# Altium footprint library DC_DC_CONVERTER.PCBLIB: 1 footprints
Each footprint in its own frame and in the unit in brackets; x right, y up, seen from the top. Pads: shape width x height; smd on the part's side, far side on the other; paste and mask are expansions set on the pad; w line width, h text height; cw(c..) or ccw(c..) is an arc to the next point about the centre after c.
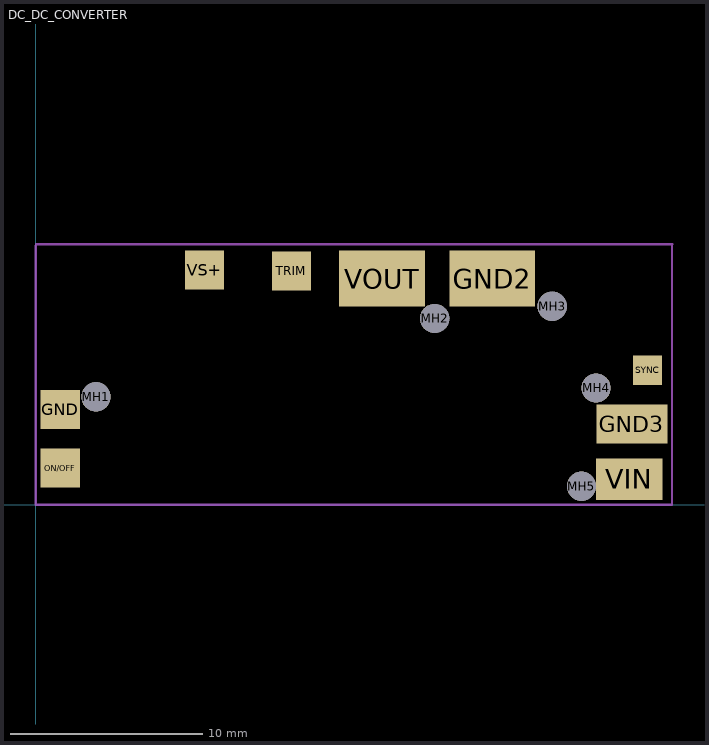
[diagram p0: the footprint, top view; thin cyan lines are the x and y axes]

## DC_DC_CONVERTER [mm]
pads (14):
  rect 2.03x2.03 smd: GND(1.27,4.95) ON/OFF(1.27,1.91) TRIM(13.27,12.15) VS+(8.76,12.19)
  rect 4.45x2.92 smd: GND2(23.69,11.75) VOUT(17.97,11.75)
  rect 3.68x2.03 smd: GND3(30.94,4.19)
  round 1.52 hole 1.52 unplated: MH1(3.12,5.61) MH2(20.7,9.68) MH3(26.8,10.31) MH4(29.08,6.07) MH5(28.32,0.97)
  rect 1.52x1.52 smd: SYNC(31.75,6.99)
  rect 3.43x2.16 smd: VIN(30.8,1.33)
tPlace:
  lines w0.127: 0,13.46 0,0 33.02,0 33.02,13.46 ; 0.01,13.52 33.03,13.52